# EAGLE library part IMU-LSM9DS0 (library DeJun-lab4)
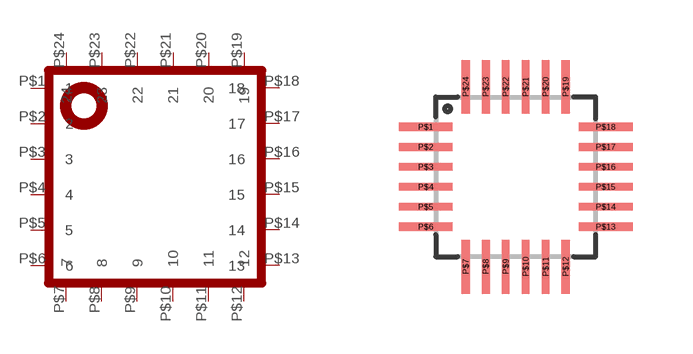
[diagram p0: symbol with the pads of IMU-LSM9DS0; footprint IMU-LSM9DS0]

Designator prefix -

## IMU-LSM9DS0 (CREATOR: DEJUN; DISP: DIGIKEY; DISPPN: 497-13902-1-ND; REVIEWER1: Trevor Smith; REVIEWER2: David Smith)  [IMU-LSM9DS0]
P$1  1
P$2  2
P$3  3
P$4  4
P$5  5
P$6  6
P$7  7
P$8  8
P$9  9
P$10  10
P$11  11
P$12  12
P$13  13
P$14  14
P$15  15
P$16  16
P$17  17
P$18  18
P$19  19
P$20  20
P$21  21
P$22  22
P$23  23
P$24  24

## Footprint IMU-LSM9DS0 (pad centres in mm)
smd 1.35 x 0.2: P$1 -2.25,1.25; P$2 -2.25,0.75; P$3 -2.25,0.25; P$4 -2.25,-0.25; P$5 -2.25,-0.75; P$6 -2.25,-1.25; P$13 2.25,-1.25; P$14 2.25,-0.75; P$15 2.25,-0.25; P$16 2.25,0.25; P$17 2.25,0.75; P$18 2.25,1.25
smd 0.2 x 1.35: P$7 -1.25,-2.25; P$8 -0.75,-2.25; P$9 -0.25,-2.25; P$10 0.25,-2.25; P$11 0.75,-2.25; P$12 1.25,-2.25; P$19 1.25,2.25; P$20 0.75,2.25; P$21 0.25,2.25; P$22 -0.25,2.25; P$23 -0.75,2.25; P$24 -1.25,2.25